# Altium schematic symbol library tyco-rf.SchLib: 2 symbols
Pins are listed as number, name and electrical type; pins without a type are passive.

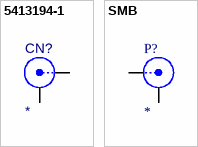
[diagram p0: symbols 5413194-1 to SMB]

## 5413194-1
designator CN?
BNC Elbow Connector; LatestRevisionDate: 17-Jul-2002; LatestRevisionNote: Re-released for DXP Platform.; Publisher: Altium Limited; ExtraInfo: *; Package: *; PN: *; Value: *
signal-integrity model Connector
footprint 5413194-1 (Connector; BNC Elbow)
pins: 1 X, 2 Y

## SMB
designator P?
SMB Connector; LatestRevisionDate: 17-Jul-2002; LatestRevisionNote: Re-released for DXP Platform.; Publisher: Altium Limited; PN: *; Value: *; ExtraInfo: *; Package: *
footprint 414026-2 (Connector; SMB Right Angle)
signal-integrity model Connector
pins: 1 X, 2 Y